# Altium footprint library SIM.PcbLib: 40 footprints (part 3 of 3)
Each footprint in its own frame and in the unit in brackets; x right, y up, seen from the top. Pads: shape width x height; smd on the part's side, far side on the other; paste and mask are expansions set on the pad; w line width, h text height; cw(c..) or ccw(c..) is an arc to the next point about the centre after c.
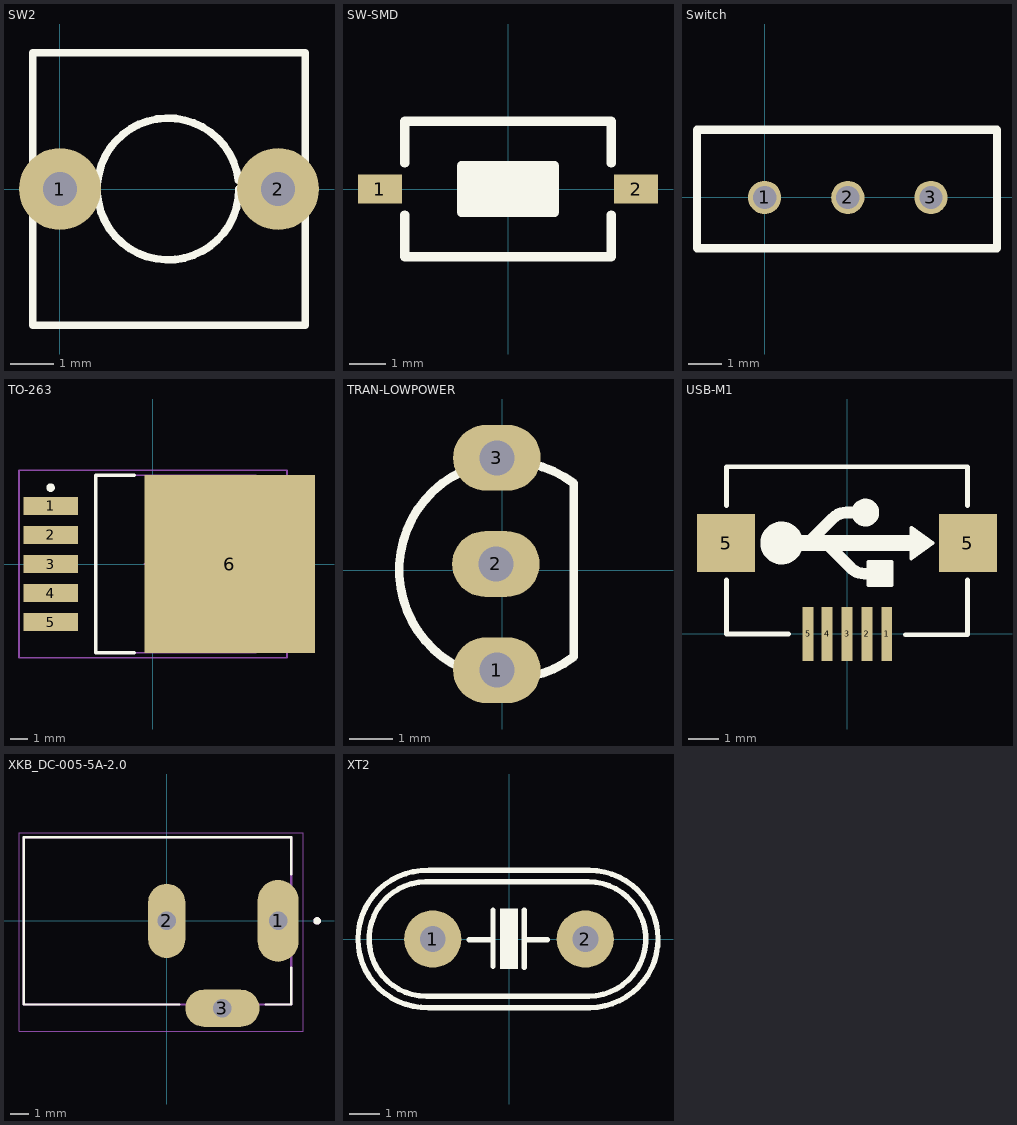
[diagram p2: the footprints below, top view; thin cyan lines are the x and y axes]

## SW2 [mil] "SW button 2pin, 250x 250 mil"
height 100
pads (2):
  round 75 hole 31: 1(0,0) 2(200,0)
Top Overlay:
  lines w7: 163.64,8.26 ccw(c99.17,0) 164.17,0 ; -25,-125 -25,125 225,125 225,-125 -25,-125

## SW-SMD [mm] "Switch SMD type"
pads (2):
  rect 1.2x0.8 smd: 1(-3.5,0) 2(3.5,0)
Top Overlay:
  rectangle: -1.27,-0.635 1.27,0.635
  lines w0.254: -2.819,-0.711 -2.819,-1.854 2.819,-1.854 2.819,-0.711 ; -2.819,0.711 -2.819,1.854 2.819,1.854 2.819,0.711 ; -1.27,-0.635 1.27,-0.635 1.27,0.635 -1.27,0.635 -1.27,-0.635
3D body "User Library-Button-SMD.step": height 2.5, standoff 0, extent -3.05,-1.85 3.05,1.85

## Switch [mm]
pads (3):
  round 1 hole 0.7: 1(0,0) 2(2.5,0) 3(5,0)
Top Overlay:
  lines w0.254: -2.032,-1.524 -2.032,2.032 6.985,2.032 6.985,-1.524 -2.032,-1.524

## TO-263 [mm]
pads (6):
  rect 3.2x1.05 smd: 1(-6,3.4) 2(-6,1.7) 3(-6,0) 4(-6,-1.7) 5(-6,-3.4)
  rect 10x10.45 smd: 6(4.5,0)
Top Overlay:
  circle w0.25: c-6,4.475 r0.125
  lines w0.2: -1.1,-5.2 -3.35,-5.2 -3.35,5.2 -1.1,5.2
Mechanical 13:
  lines w0.1: -3.35,-5.2 6.05,-5.2 6.05,5.2 -3.35,5.2 -3.35,-5.2
Mechanical 15:
  lines w0.1: -0.5,0 0.5,0 ; 0,-0.5 0,0.5 ; -7.85,-5.5 7.85,-5.5 7.85,5.5 -7.85,5.5 -7.85,-5.5
3D body: height 4.65, standoff 0, extent -3.35,-5.2 6.05,5.2
3D body: height 0.5, standoff 0, extent -6.566,2.832 -4.305,3.924
3D body: height 2, standoff 0, extent -4.953,2.832 -4.293,3.924
3D body: height 2, standoff 1.5, extent -4.953,2.845 -3.251,3.937
3D body: height 2, standoff 1.5, extent -4.966,1.156 -3.264,2.248
3D body: height 2, standoff 0, extent -4.966,1.143 -4.305,2.235
3D body: height 0.5, standoff 0, extent -6.579,1.143 -4.318,2.235
3D body: height 0.5, standoff 0, extent -6.553,-2.286 -4.293,-1.194
3D body: height 2, standoff 0, extent -4.94,-2.286 -4.28,-1.194
3D body: height 2, standoff 1.5, extent -4.94,-2.273 -3.238,-1.181
3D body: height 2, standoff 1.5, extent -4.928,-0.584 -3.226,0.508
3D body: height 2, standoff 0, extent -4.928,-0.597 -4.267,0.495
3D body: height 0.5, standoff 0, extent -6.54,-0.597 -4.28,0.495
3D body: height 2, standoff 1.5, extent -4.953,-3.937 -3.251,-2.845
3D body: height 2, standoff 0, extent -4.953,-3.95 -4.293,-2.857
3D body: height 0.5, standoff 0, extent -6.566,-3.95 -4.305,-2.857
3D body: height 0.5, standoff 0, extent 6.05,-5.2 7.569,5.2

## TRAN-LOWPOWER [mm] "TO, Flat Index; 3 In-Line, Axial Leads; Body Dia. 4.5mm; Leads 0.51 x 0.48 mm (max)"
height 6.86
pads (3):
  oval 2x1.5 hole 0.8: 1(-0.127,-2.286) 2(-0.151,0.139) 3(-0.127,2.564)
Top Overlay:
  lines w0.2: 1.627,-1.98 cw(c0.127,0) 1.627,1.98 1.627,-1.98
3D body "BJT.step": height 11, standoff -1, extent -2.476,-2.794 1.524,3.006

## USB-M1 [mil]
height 153.54
pads (7):
  rect 14x70 smd: 1(51.18,0) 2(25.59,0) 3(0,0) 4(-25.59,0) 5(-50,0)
  rect 74.8x74.8 smd: 5(-155.51,116.84) 5(155.51,116.84)
Top Overlay:
  circle w35: c-84.07,117 r10
  circle w20: c23.56,156.21 r7.87
  region: 110.18,117 82.62,97.31 82.62,136.69
  region: 57.03,62.87 27.5,62.87 27.5,92.39 57.03,92.39
  lines w5: 27.5,62.87 27.5,92.39 57.03,92.39 57.03,62.87 27.5,62.87 ; 82.62,97.31 110.18,117 82.62,136.69 82.62,97.31
  lines w6: -155,69.8 -155,0 -75,0 ; -155,164.84 -155,215 155,215 155,164.84 ; 75,-1 155,-1 155,69.8
  lines w15: -52.85,114.46 -18.48,148.83 cw(c-0.65,131) -0.65,156.21 22.5,156.21 ; -24.7,114.54 4.83,85.01 ccw(c22.66,102.84) 22.66,77.63 42.5,77.63
  lines w20: -82.5,117 92.5,117
3D body "Micro USB.STP": height 106.7, standoff -9.04, extent -156.58,4.52 157.59,218.29

## XKB_DC-005-5A-2.0 [mm]
height 11
pads (3):
  oval 2.2x4.4 hole 1 square: 1(6,0)
  oval 2x4 hole 1 square: 2(0,0)
  oval 4x2 hole 1 square: 3(3,-4.7)
Top Overlay:
  circle w0.2: c8.1,0 r0.1
  lines w0.127: 0.68,-4.5 -7.7,-4.5 -7.7,4.5 6.7,4.5 6.7,2.52 ; 5.32,-4.5 6.7,-4.5 6.7,-2.52
Mechanical 13:
  circle w0.2: c8.1,0 r0.1
  lines w0.127: -7.7,-4.5 6.7,-4.5 6.7,4.5 -7.7,4.5 -7.7,-4.5
Mechanical 15:
  lines w0.05: -7.95,-5.95 -7.95,4.75 7.35,4.75 7.35,-5.95 -7.95,-5.95

## XT2 [mil] "Footpin for Crystal 2 pin"
pads (2):
  round 75 hole 34: 1(-100,0) 2(100,0)
Top Overlay:
  region: 11.5,40 11.5,-39 -11.5,-39 -11.5,40
  lines w7: -109,75 ccw(c-108.5,0) -108.27,-75 ; -106.97,-75 103.03,-75 ; -105.97,75 104.03,75 ; -105.02,-90 105.91,-90 ccw(c105.31,0) 105.03,90 -104.97,90.01 ccw(c-108,0.06) -105.02,-89.89 ; -52,-1 -21,-1 ; -21,-36 -21,38 ; 20,-37 20,38 ; 20,-1 50,-1 ; 104,75 cw(c104.23,0) 104.73,-75
3D body "SW3dPS-HP49US.STEP": height 137.8, standoff -157.48, extent -233.43,-93.07 213.43,90